# Altium schematic symbol library MAX86150EFF+T.Schlib: 1 symbol
Pins are listed as number, name and electrical type; pins without a type are passive.

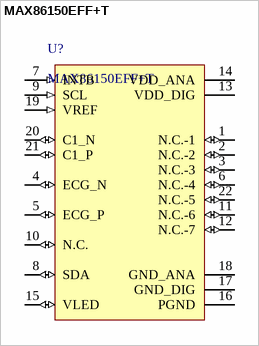
[diagram p0: symbol MAX86150EFF+T]

## MAX86150EFF+T
designator U?
Oximeter/Heart Rate Sensor I²C Output
pins: 1 N.C.-1 (io), 2 N.C.-2 (io), 3 N.C.-3 (io), 4 ECG_N (io), 5 ECG_P (io), 6 N.C.-4 (io), 7 INTB (in), 8 SDA (io), 9 SCL (in), 10 N.C. (io), 11 N.C.-6 (io), 12 N.C.-7 (io), 13 VDD_DIG (power), 14 VDD_ANA (power), 15 VLED (io), 16 PGND (power), 17 GND_DIG (power), 18 GND_ANA (power), 19 VREF (in), 20 C1_N (io), 21 C1_P (io), 22 N.C.-5 (io)